# Altium integrated library STC3115AIQT.IntLib: 1 symbol
Pins are listed as number, name and electrical type; pins without a type are passive.

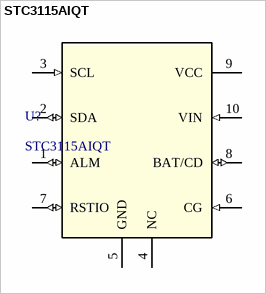
[diagram p0: symbol STC3115AIQT]

## STC3115AIQT
designator U?
STC3115AIQT Fuel Gauge IC; Mfr_Name: STMicroelectronics; RefDes: RefDes; Type: Type; Supplier 1: Arrow Electronics; Supplier Part Number 1: STC3115AIQT
footprint DFN10_2X3_STM
pins: 1 ALM (io), 2 SDA (io), 3 SCL (in), 4 NC, 5 GND (power), 6 CG (in), 7 RSTIO (io), 8 BAT/CD (io), 9 VCC (power), 10 VIN (in)